# EAGLE library part TLC77XX (library lbm)
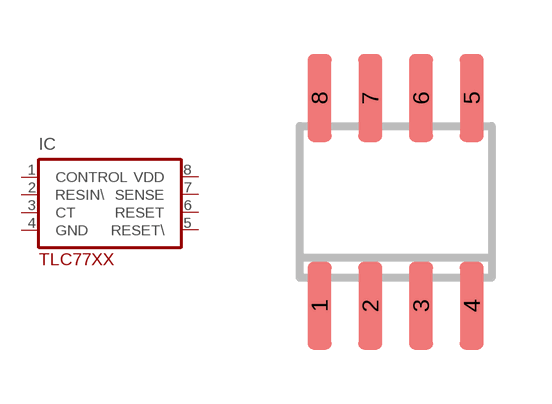
[diagram p21: symbol with the pads of SO8; footprint SO8]

Designator prefix IC

## TLC77XX  [SO8]
1  CONTROL  in
2  RESIN\  in
3  CT  in
4  GND  pwr
5  RESET\  out
6  RESET  out
7  SENSE  in
8  VDD  pwr

## Footprint SO8 (pad centres in mm)
smd 0.6 x 2.2: 1 -1.905,-2.6; 2 -0.635,-2.6; 3 0.635,-2.6; 4 1.905,-2.6; 5 1.905,2.6; 6 0.635,2.6; 7 -0.635,2.6; 8 -1.905,2.6